# Altium footprint library SEMITEC-AT4.PcbLib: 1 footprints
Each footprint in its own frame and in the unit in brackets; x right, y up, seen from the top. Pads: shape width x height; smd on the part's side, far side on the other; paste and mask are expansions set on the pad; w line width, h text height; cw(c..) or ccw(c..) is an arc to the next point about the centre after c.
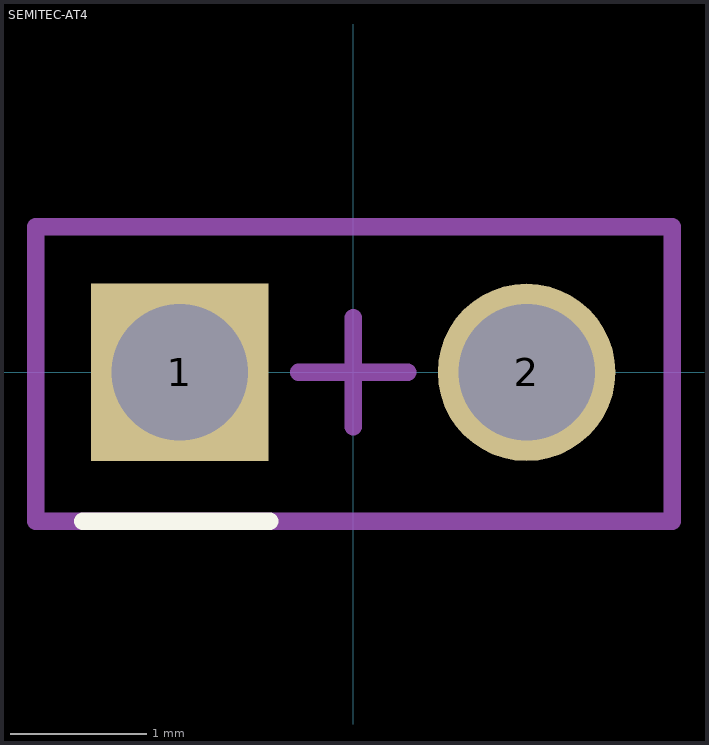
[diagram p0: the footprint, top view; thin cyan lines are the x and y axes]

## SEMITEC-AT4 [mm]
pads (2):
  rect 1.3x1.3 hole 1 mask+0.1: 1(-1.27,0)
  round 1.3 hole 1 mask+0.1: 2(1.27,0)
Top Overlay:
  lines w0.127: -1.981,-1.092 -0.61,-1.092
Mechanical 13:
  lines w0.127: -2.324,-1.092 2.337,-1.092 2.337,1.067 -2.324,1.067 -2.324,-1.092
Mechanical 15:
  lines w0.127: -0.4,0 0,0 ; 0,-0.4 0,0 ; 0,0.4 0,0 ; 0.4,0 0,0
3D body "103AT-4-70316.stp": height 173.1, standoff -1.9, extent -3.365,-1.25 3.365,1.25